# Altium schematic symbol library RF.Filters.SchLib: 29 symbols
Pins are listed as number, name and electrical type; pins without a type are passive.

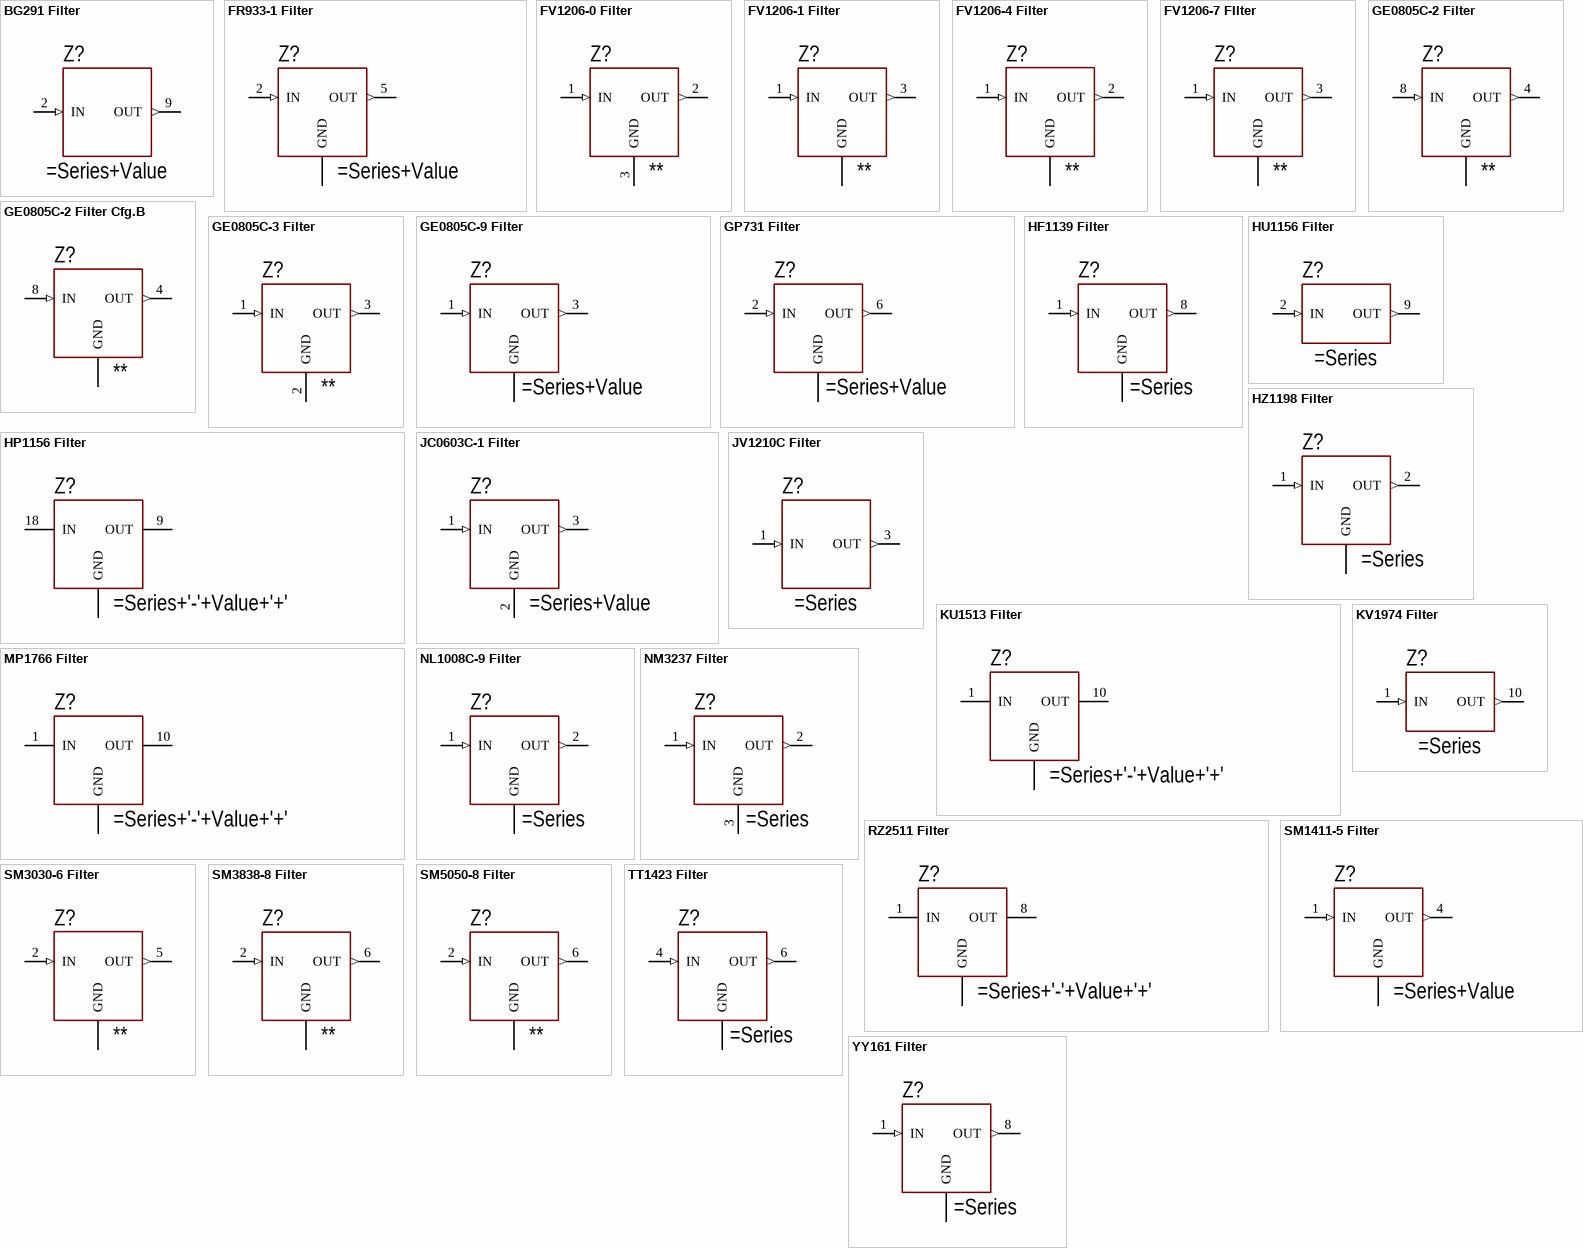
[diagram p0: symbols BG291 Filter to YY161 Filter]

## BG291 Filter
designator Z?
BG291 Filter Schematic Symbol
pins: 1 GND hidden to GND, 2 IN (in), 3 GND hidden to GND, 4 GND hidden to GND, 5 GND hidden to GND, 6 GND hidden to GND, 7 GND hidden to GND, 8 GND hidden to GND, 9 OUT (out), 10 GND hidden to GND, 11 GND hidden to GND, 12 GND hidden to GND, 13 GND hidden to GND, 14 GND hidden to GND

## FR933-1 Filter
designator Z?
LTCC Filter, FR933-1 Package
pins: 1 GND hidden to GND, 2 IN (in), 3 GND, 4 GND hidden to GND, 5 OUT (out), 6 GND hidden to GND

## FV1206-0 Filter
designator Z?, comment **
LTCC Filter, FV1206 Package; Series: *; Value: *
pins: 1 IN (in), 2 OUT (out), 3 GND

## FV1206-1 Filter
designator Z?, comment **
LTCC Filter, FV1206-1 Package; Series: *; Value: *
pins: 1 IN (in), 2 GND, 3 OUT (out), 4 GND hidden to GND, 5 GND hidden to GND, 6 GND hidden to GND

## FV1206-4 Filter
designator Z?, comment **
LTCC Filter, FV1206-4 Package; Series: *; Value: *
pins: 1 IN (in), 2 OUT (out), 3 GND

## FV1206-7 FIlter
designator Z?, comment **
LTCC Filter, FV1206-7 Package; Series: *; Value: *
pins: 1 IN (in), 2 GND, 3 OUT (out)

## GE0805C-2 Filter
designator Z?, comment **
LTCC Filter, GE0802C-2 Package; Series: *; Value: *
pins: 1 GND hidden to GND, 2 GND hidden to GND, 3 GND, 4 OUT (out), 5 GND hidden to GND, 6 GND hidden to GND, 7 GND hidden to GND, 8 IN (in)

## GE0805C-2 Filter Cfg.B
designator Z?, comment **
LTCC Filter, GE0802C-2 Package, Isolated Pins 2,6; Series: *; Value: *
pins: 1 GND hidden to GND, 3 GND, 4 OUT (out), 5 GND hidden to GND, 7 GND hidden to GND, 8 IN (in)

## GE0805C-3 Filter
designator Z?, comment **
LTCC Filter, GE0805C-3 Package; Series: *; Value: *
pins: 1 IN (in), 2 GND, 3 OUT (out)

## GE0805C-9 Filter
designator Z?
LTCC Filter, GE0802C-9 Package
pins: 1 IN (in), 2 GND hidden to GND, 3 OUT (out), 4 GND, 5 GND hidden to GND, 6 GND hidden to GND

## GP731 Filter
designator Z?
Lumped LC Filter, GP731 Package
pins: 1 GND hidden to GND, 2 IN (in), 3 GND hidden to GND, 4 GND hidden to GND, 5 GND, 6 OUT (out), 7 GND hidden to GND, 8 GND hidden to GND

## HF1139 Filter
designator Z?
Lumped LC Filter, HF1139 Package
pins: 1 IN (in), 2 GND hidden to GND, 3 GND hidden to GND, 4 GND, 5 GND hidden to GND, 6 GND hidden to GND, 7 GND hidden to GND, 8 OUT (out)

## HP1156 Filter
designator Z?
Lumped LC Filter, HP1156 Package
pins: 1 GND, 2 NC hidden, 3 GND hidden to GND, 4 GND hidden to GND, 5 GND hidden to GND, 6 GND hidden to GND, 7 GND hidden to GND, 8 GND hidden to GND, 9 OUT, 10 GND hidden to GND, 11 NC hidden, 12 GND hidden to GND, 13 GND hidden to GND, 14 GND hidden to GND, 15 GND hidden to GND, 16 GND hidden to GND, 17 GND hidden to GND, 18 IN

## HU1156 Filter
designator Z?
HU1156 Filter Schematic Symbol
pins: 1 GND hidden to GND, 2 IN (in), 3 GND hidden to GND, 4 GND hidden to GND, 5 GND hidden to GND, 6 NC hidden, 7 GND hidden to GND, 8 GND hidden to GND, 9 OUT (out), 10 GND hidden to GND, 11 GND hidden to GND, 12 GND hidden to GND, 13 NC hidden, 14 GND hidden to GND

## HZ1198 Filter
designator Z?
Lumped LC Filter, HZ1198 Package
pins: 1 IN (in), 2 OUT (out), 3 GND, 4 GND hidden to GND, 5 GND hidden to GND, 6 GND hidden to GND

## JC0603C-1 Filter
designator Z?
LTCC Filter, JC0603C-1 Package
pins: 1 IN (in), 2 GND, 3 OUT (out)

## JV1210C Filter
designator Z?
JC1210C Filter Schematic Symbol
pins: 1 IN (in), 2 hidden to GND, 3 OUT (out), 4 hidden to GND

## KU1513 Filter
designator Z?
Ceramic Resonator Filter, KU1513 Filter
pins: 1 IN, 2 GND, 3 GND hidden to GND, 4 GND hidden to GND, 5 GND hidden to GND, 6 GND hidden to GND, 7 GND hidden to GND, 8 GND hidden to GND, 9 GND hidden to GND, 10 OUT, 11 GND hidden to GND, 12 GND hidden to GND, 13 GND hidden to GND, 14 GND hidden to GND, 15 GND hidden to GND, 16 GND hidden to GND, PAD GND hidden to GND

## KV1974 Filter
designator Z?
KV1974 Filter Shcematic Symbol
pins: 1 IN (in), 2 GND hidden to GND, 3 GND hidden to GND, 4 GND hidden to GND, 5 GND hidden to GND, 6 GND hidden to GND, 7 GND hidden to GND, 8 GND hidden to GND, 9 GND hidden to GND, 10 OUT (out), 11 GND hidden to GND, 12 GND hidden to GND, 13 GND hidden to GND, 14 GND hidden to GND, 15 GND hidden to GND, 16 GND hidden to GND

## MP1766 Filter
designator Z?
Ceramic Resonator Filter, MP1766 Package
pins: 1 IN, 2 GND, 3 GND hidden to GND, 4 GND hidden to GND, 5 GND hidden to GND, 6 GND hidden to GND, 7 GND hidden to GND, 8 GND hidden to GND, 9 GND hidden to GND, 10 OUT, 11 GND hidden to GND, 12 GND hidden to GND, 13 GND hidden to GND

## NL1008C-9 Filter
designator Z?
LTCC Filter, NL1008C-9 Package
pins: 1 IN (in), 2 OUT (out), PAD GND

## NM3237 Filter
designator Z?
LTCC Filter, NM3237 Package
pins: 1 IN (in), 2 OUT (out), 3 GND

## RZ2511 Filter
designator Z?
Ceramic Resonator Filter, RZ2511 Package
footprint RZ2511 (Mini-Circuts RZ2511 Package, 19.05x14.00mm, 11 leads)
pins: 1 IN, 2 GND, 3 GND hidden to GND, 4 GND hidden to GND, 5 GND hidden to GND, 6 GND hidden to GND, 7 GND hidden to GND, 8 OUT, 9 GND hidden to GND, 10 GND hidden to GND, 11 GND hidden to GND

## SM1411-5 Filter
designator Z?
Generic Filter in SM1411-5 Package
pins: 1 IN (in), 2 GND hidden to GND, 3 GND, 4 OUT (out), 5 GND hidden to GND

## SM3030-6 Filter
designator Z?, comment **
Generic Filter in SM3030-6 Package; Series: *; Value: *
pins: 1 GND, 2 IN (in), 3 GND hidden to GND, 4 GND hidden to GND, 5 OUT (out), 6 GND hidden to GND

## SM3838-8 Filter
designator Z?, comment **
Generic Filter in SM3838-8 Package; Series: *; Value: *
pins: 1 GND hidden to GND, 2 IN (in), 3 GND hidden to GND, 4 GND, 5 GND hidden to GND, 6 OUT (out), 7 GND hidden to GND, 8 GND hidden to GND

## SM5050-8 Filter
designator Z?, comment **
Generic Filter in SM5050-8 Package; Value: *; Series: *
pins: 1 GND hidden to GND, 2 IN (in), 3 GND hidden to GND, 4 GND, 5 GND hidden to GND, 6 OUT (out), 7 GND hidden to GND, 8 GND hidden to GND

## TT1423 Filter
designator Z?
Lumped LC Filter, TT1423 Package
pins: 1 GND hidden to GND, 2 GND hidden to GND, 3 GND hidden to GND, 4 IN (in), 5 GND hidden to GND, 6 OUT (out), PAD GND

## YY161 Filter
designator Z?
Lumped LC Filter, HF1139 Package
pins: 1 IN (in), 2 GND hidden to GND, 3 GND hidden to GND, 4 GND, 5 GND hidden to GND, 6 GND hidden to GND, 7 GND hidden to GND, 8 OUT (out)